# Altium schematic symbol library 74404054470.SchLib: 1 symbol
Pins are listed as number, name and electrical type; pins without a type are passive.

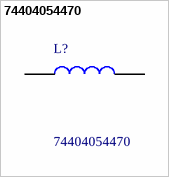
[diagram p0: symbol 74404054470]

## 74404054470
designator L?
Wurth WE-LQS Series Shielded Wire-wound SMD Inductor 47 uH +/-20% 1A Idc; Manufacturer_Name: Wurth Elektronik; Geometry.Height: 4mm; Manufacturer_Part_Number: 74404054470; Mouser Part Number: 710-74404054470; Mouser Price/Stock: https://www.mouser.co.uk/ProductDetail/Wurth-Elektronik/74404054470?qs=Zt3UNFD9mQjCehaSX3JlDg%3D%3D; Arrow Part Number: *; Arrow Price/Stock: *; Datasheet Link: http://katalog.we-online.de/pbs/datasheet/74404054470.pdf
footprint 74404054470
pins: 1, 2